# Altium schematic symbol library ESD-USB.SchLib: 1 symbol
Pins are listed as number, name and electrical type; pins without a type are passive.

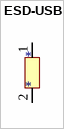
[diagram p0: symbol ESD-USB]

## ESD-USB
designator *
pins: 1, 2